# Altium schematic symbol library SN74LVC1G18DBVR.Schlib: 1 symbol
Pins are listed as number, name and electrical type; pins without a type are passive.

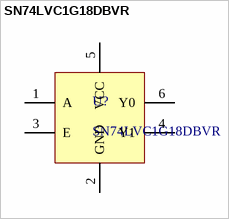
[diagram p0: symbol SN74LVC1G18DBVR]

## SN74LVC1G18DBVR
designator U?
IC 1OF2 NON-INV DEMUX SOT23-6
pins: 1 A, 2 GND, 3 E, 4 Y1, 5 VCC, 6 Y0